# Altium footprint library Capacitors.PcbLib: 23 footprints (part 1 of 2)
Each footprint in its own frame and in the unit in brackets; x right, y up, seen from the top. Pads: shape width x height; smd on the part's side, far side on the other; paste and mask are expansions set on the pad; w line width, h text height; cw(c..) or ccw(c..) is an arc to the next point about the centre after c.
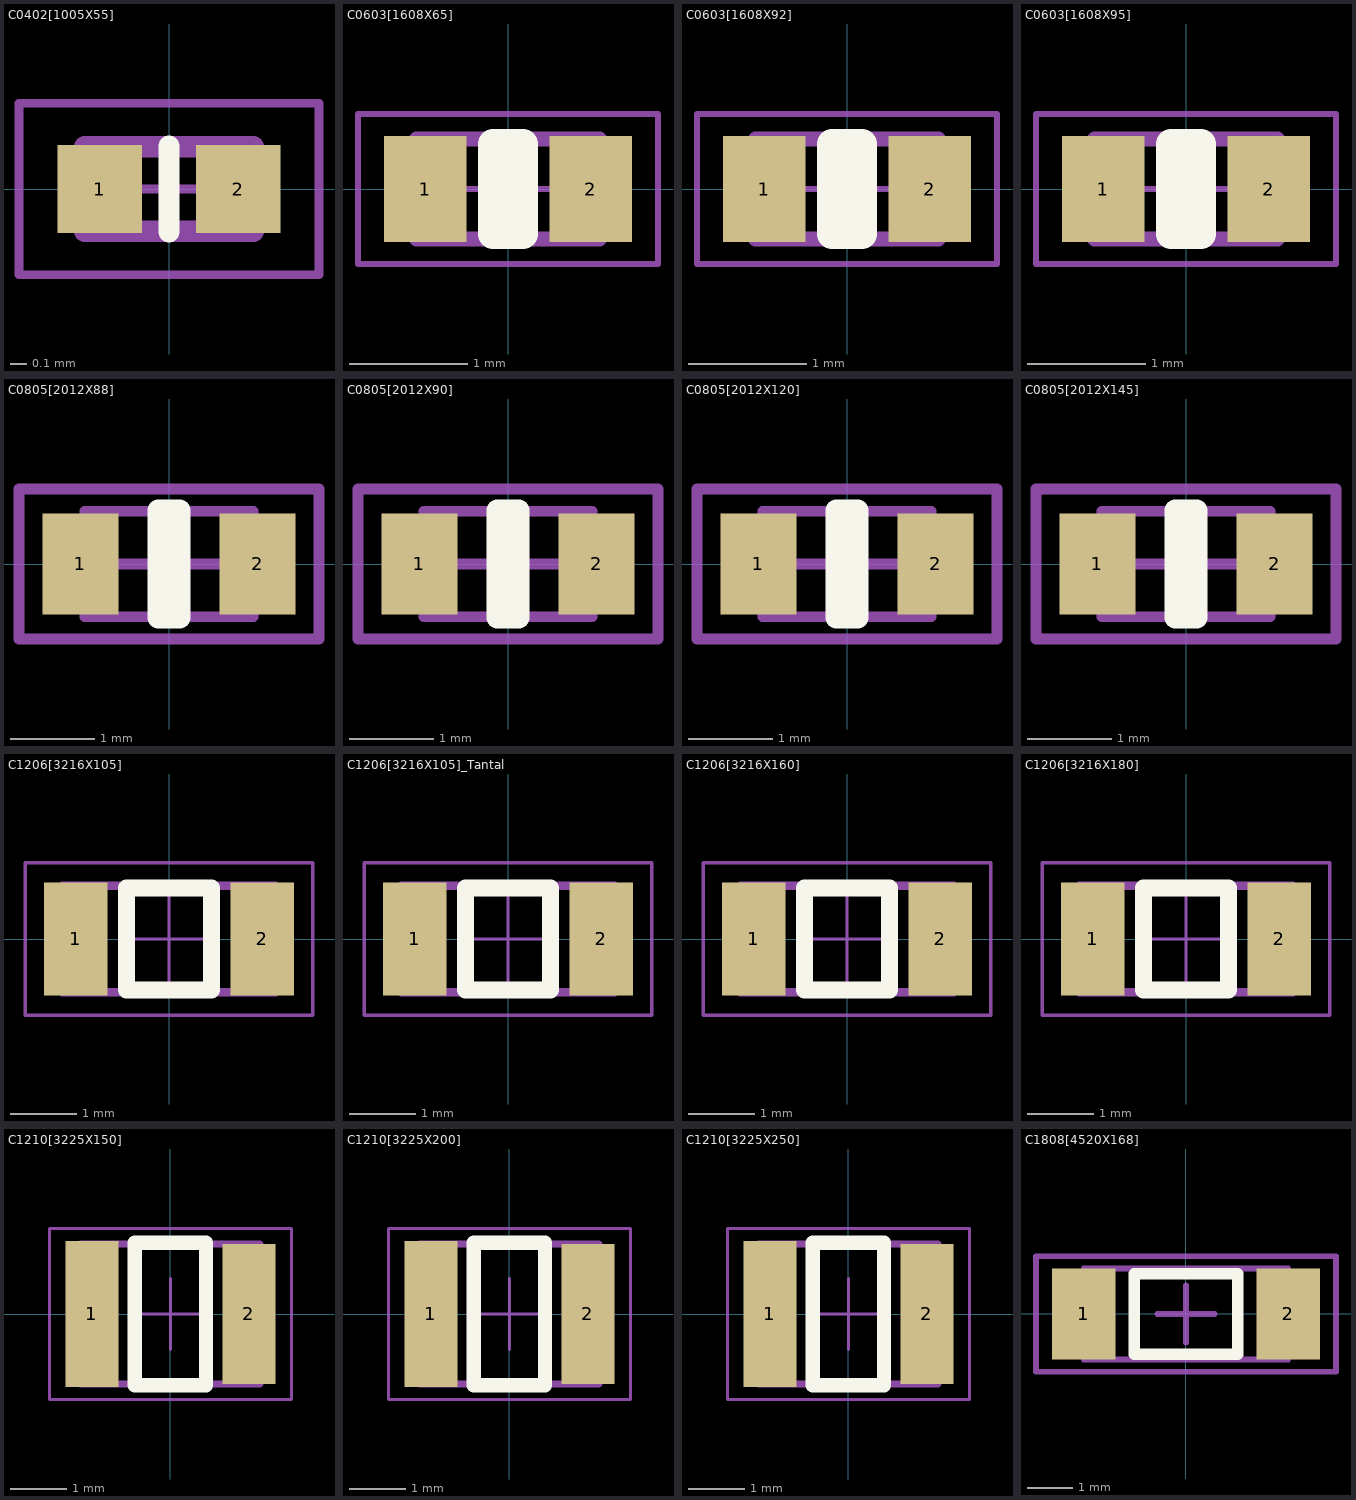
[diagram p0: the footprints below, top view; thin cyan lines are the x and y axes]

## C0402[1005X55] [mm] "Chip Capacitor, Body 1.0x0.5mm"
height 0.55
pads (2):
  rect 0.5x0.52 smd: 1(-0.41,0) 2(0.41,0)
Top Overlay:
  lines w0.127: 0,-0.254 0,0.254
Mechanical 2:
  lines w0.051: -0.254,0 0.254,0 ; 0,-0.254 0,0.254 ; -0.889,-0.508 0.889,-0.508 0.889,0.508 -0.889,0.508 -0.889,-0.508
Mechanical 3:
  lines w0.127: -0.5,-0.25 0.5,-0.25 0.5,0.25 -0.5,0.25 -0.5,-0.25
3D body "CAPC1005X55N EIA 0402.step": height 0.56, standoff 0.01, extent -0.5,-0.25 0.5,0.25

## C0603[1608X65] [mm] "Chip Capacitor, Body 1.6x0.8mm"
height 0.65
pads (2):
  rect 0.7x0.9 smd: 1(-0.7,0) 2(0.7,0)
Top Overlay:
  lines w0.254: -0.127,-0.381 0.127,-0.381 0.127,0.381 -0.127,0.381 -0.127,-0.381
Mechanical 2:
  lines w0.051: -0.381,0 0.381,0 ; 0,-0.381 0,0.381 ; -1.27,-0.635 1.27,-0.635 1.27,0.635 -1.27,0.635 -1.27,-0.635
Mechanical 3:
  lines w0.127: -0.775,-0.425 -0.775,0.425 0.775,0.425 0.775,-0.425 -0.775,-0.425
3D body "CAPC1508X65N EIA 0603.step": height 0.66, standoff 0.01, extent -0.75,-0.4 0.75,0.4

## C0603[1608X92] [mm] "Chip Capacitor, Body 1.6x0.8mm"
height 0.92
pads (2):
  rect 0.7x0.9 smd: 1(-0.7,0) 2(0.7,0)
Top Overlay:
  lines w0.254: -0.127,-0.381 0.127,-0.381 0.127,0.381 -0.127,0.381 -0.127,-0.381
Mechanical 2:
  lines w0.051: -0.381,0 0.381,0 ; 0,-0.381 0,0.381 ; -1.27,-0.635 1.27,-0.635 1.27,0.635 -1.27,0.635 -1.27,-0.635
Mechanical 3:
  lines w0.127: -0.775,-0.425 -0.775,0.425 0.775,0.425 0.775,-0.425 -0.775,-0.425
3D body "CAPC1608X92N EIA 0603.step": height 0.93, standoff 0.01, extent -0.8,-0.4 0.8,0.4

## C0603[1608X95] [mm] "Chip Capacitor, Body 1.6x0.8mm"
height 0.95
pads (2):
  rect 0.7x0.9 smd: 1(-0.7,0) 2(0.7,0)
Top Overlay:
  lines w0.254: -0.127,-0.381 -0.127,0.381 0.127,0.381 0.127,-0.381 -0.127,-0.381
Mechanical 2:
  lines w0.051: -0.381,0 0.381,0 ; 0,-0.381 0,0.381 ; -1.27,-0.635 -1.27,0.635 1.27,0.635 1.27,-0.635 -1.27,-0.635
Mechanical 3:
  lines w0.127: -0.775,-0.425 0.775,-0.425 0.775,0.425 -0.775,0.425 -0.775,-0.425
3D body "CAPC1608X95N EIA 0603.step": height 0.96, standoff 0.01, extent -0.8,-0.4 0.8,0.4

## C0805[2012X88] [mm] "Chip Capacitor, Body 2.0x1.25mm"
height 0.88
pads (2):
  rect 0.9x1.2 smd: 1(-1.05,0) 2(1.05,0)
Top Overlay:
  lines w0.254: -0.127,-0.635 0.127,-0.635 0.127,0.635 -0.127,0.635 -0.127,-0.635
Mechanical 2:
  lines w0.127: -0.635,0 0.635,0 ; 0,-0.635 0,0.635 ; -1.778,-0.889 1.778,-0.889 1.778,0.889 -1.778,0.889 -1.778,-0.889
Mechanical 3:
  lines w0.127: -1,-0.625 1,-0.625 1,0.625 -1,0.625 -1,-0.625
3D body "CAPC2012X88N EIA 0805.step": height 0.89, standoff 0.01, extent -1,-0.6 1,0.6

## C0805[2012X90] [mm] "Chip Capacitor, Body 2.0x1.25mm"
height 0.9
pads (2):
  rect 0.9x1.2 smd: 1(-1.05,0) 2(1.05,0)
Top Overlay:
  lines w0.254: -0.127,-0.635 -0.127,0.635 0.127,0.635 0.127,-0.635 -0.127,-0.635
Mechanical 2:
  lines w0.127: -0.635,0 0.635,0 ; 0,-0.635 0,0.635 ; -1.778,-0.889 -1.778,0.889 1.778,0.889 1.778,-0.889 -1.778,-0.889
Mechanical 3:
  lines w0.127: -1,-0.625 -1,0.625 1,0.625 1,-0.625 -1,-0.625
3D body "CAPC2012X90N EIA 0805.step": height 0.91, standoff 0.01, extent -1,-0.6 1,0.6

## C0805[2012X120] [mm] "Chip Capacitor, Body 2.0x1.25mm"
height 1.2
pads (2):
  rect 0.9x1.2 smd: 1(-1.05,0) 2(1.05,0)
Top Overlay:
  lines w0.254: -0.127,-0.635 -0.127,0.635 0.127,0.635 0.127,-0.635 -0.127,-0.635
Mechanical 2:
  lines w0.127: -0.635,0 0.635,0 ; 0,-0.635 0,0.635 ; -1.778,-0.889 -1.778,0.889 1.778,0.889 1.778,-0.889 -1.778,-0.889
Mechanical 3:
  lines w0.127: -1,-0.625 -1,0.625 1,0.625 1,-0.625 -1,-0.625
3D body "CAPC2012X120N EIA 0805.step": height 1.21, standoff 0.01, extent -1,-0.6 1,0.6

## C0805[2012X145] [mm] "Chip Capacitor, Body 2.0x1.25mm"
height 1.45
pads (2):
  rect 0.9x1.2 smd: 1(-1.05,0) 2(1.05,0)
Top Overlay:
  lines w0.254: -0.127,-0.635 -0.127,0.635 0.127,0.635 0.127,-0.635 -0.127,-0.635
Mechanical 2:
  lines w0.127: -0.635,0 0.635,0 ; 0,-0.635 0,0.635 ; -1.778,-0.889 -1.778,0.889 1.778,0.889 1.778,-0.889 -1.778,-0.889
Mechanical 3:
  lines w0.127: -1,-0.625 -1,0.625 1,0.625 1,-0.625 -1,-0.625
3D body "CAPC2012X145N EIA 0805.step": height 1.46, standoff 0.01, extent -1,-0.6 1,0.6

## C1206[3216X105] [mm] "Chip Capacitor, Body 3.2x1.6mm"
height 1.05
pads (2):
  rect 0.95x1.7 smd: 1(-1.4,0) 2(1.4,0)
Top Overlay:
  lines w0.254: -0.635,-0.762 0.635,-0.762 0.635,0.762 -0.635,0.762 -0.635,-0.762
Mechanical 2:
  lines w0.051: -0.635,0 0.635,0 ; 0,-0.635 0,0.635 ; -2.159,-1.143 2.159,-1.143 2.159,1.143 -2.159,1.143 -2.159,-1.143
Mechanical 3:
  lines w0.127: -1.6,-0.8 -1.6,0.8 1.6,0.8 1.6,-0.8 -1.6,-0.8
3D body "CAPC3216X105N EIA 1206.step": height 1.06, standoff 0.01, extent -1.6,-0.8 1.6,0.8

## C1206[3216X105]_Tantal [mm] "Tantal Capacitor, Body 3.2x1.6mm"
height 1.05
pads (2):
  rect 0.95x1.7 smd: 1(-1.4,0) 2(1.4,0)
Top Overlay:
  lines w0.254: -0.635,-0.762 0.635,-0.762 0.635,0.762 -0.635,0.762 -0.635,-0.762
Mechanical 2:
  lines w0.051: -0.635,0 0.635,0 ; 0,-0.635 0,0.635 ; -2.159,-1.143 2.159,-1.143 2.159,1.143 -2.159,1.143 -2.159,-1.143
Mechanical 3:
  lines w0.127: -1.6,-0.8 -1.6,0.8 1.6,0.8 1.6,-0.8 -1.6,-0.8
3D body "User Library-CaseA.step": height 1.8, standoff 0.14, extent -1.732,-0.8 1.732,0.8

## C1206[3216X160] [mm] "Chip Capacitor, Body 3.2x1.6mm"
height 1.8
pads (2):
  rect 0.95x1.7 smd: 1(-1.4,0) 2(1.4,0)
Top Overlay:
  lines w0.254: -0.635,-0.762 -0.635,0.762 0.635,0.762 0.635,-0.762 -0.635,-0.762
Mechanical 2:
  lines w0.051: -0.635,0 0.635,0 ; 0,-0.635 0,0.635 ; -2.159,-1.143 -2.159,1.143 2.159,1.143 2.159,-1.143 -2.159,-1.143
Mechanical 3:
  lines w0.127: -1.6,-0.8 1.6,-0.8 1.6,0.8 -1.6,0.8 -1.6,-0.8
3D body "CAPC3215X168N EIA 1206.step": height 1.67, standoff -0.01, extent -1.6,-0.75 1.6,0.75

## C1206[3216X180] [mm] "Chip Capacitor, Body 3.2x1.6mm"
height 1.8
pads (2):
  rect 0.95x1.7 smd: 1(-1.4,0) 2(1.4,0)
Top Overlay:
  lines w0.254: -0.635,-0.762 -0.635,0.762 0.635,0.762 0.635,-0.762 -0.635,-0.762
Mechanical 2:
  lines w0.051: -0.635,0 0.635,0 ; 0,-0.635 0,0.635 ; -2.159,-1.143 -2.159,1.143 2.159,1.143 2.159,-1.143 -2.159,-1.143
Mechanical 3:
  lines w0.127: -1.6,-0.8 1.6,-0.8 1.6,0.8 -1.6,0.8 -1.6,-0.8
3D body "CAPC3216X180N EIA 1206.step": height 1.81, standoff 0.01, extent -1.6,-0.8 1.6,0.8

## C1210[3225X150] [mm] "Chip Capacitor, Body 3.2x2.5mm"
height 1.5
pads (2):
  rect 0.95x2.6 smd: 1(-1.4,0)
  rect 0.95x2.5 smd: 2(1.4,0)
Top Overlay:
  lines w0.254: -0.635,-1.27 0.635,-1.27 0.635,1.27 -0.635,1.27 -0.635,-1.27
Mechanical 2:
  lines w0.051: -0.635,0 0.635,0 ; 0,-0.635 0,0.635 ; -2.159,-1.524 -2.159,1.524 2.159,1.524 2.159,-1.524 -2.159,-1.524
Mechanical 3:
  lines w0.127: -1.6,-1.25 -1.6,1.25 1.6,1.25 1.6,-1.25 -1.6,-1.25
3D body "CAPC3225X150N CDR33.step": height 1.51, standoff 0.01, extent -1.6,-1.25 1.6,1.25

## C1210[3225X200] [mm] "Chip Capacitor, Body 3.2x2.5mm"
height 1.5
pads (2):
  rect 0.95x2.6 smd: 1(-1.4,0)
  rect 0.95x2.5 smd: 2(1.4,0)
Top Overlay:
  lines w0.254: -0.635,-1.27 -0.635,1.27 0.635,1.27 0.635,-1.27 -0.635,-1.27
Mechanical 2:
  lines w0.051: -0.635,0 0.635,0 ; 0,-0.635 0,0.635 ; -2.159,-1.524 2.159,-1.524 2.159,1.524 -2.159,1.524 -2.159,-1.524
Mechanical 3:
  lines w0.127: -1.6,-1.25 1.6,-1.25 1.6,1.25 -1.6,1.25 -1.6,-1.25
3D body "CAPC3225X200N EIA 1210.step": height 1.99, standoff -0.01, extent -1.6,-1.25 1.6,1.25

## C1210[3225X250] [mm] "Chip Capacitor, Body 3.2x2.5mm"
height 1.5
pads (2):
  rect 0.95x2.6 smd: 1(-1.4,0)
  rect 0.95x2.5 smd: 2(1.4,0)
Top Overlay:
  lines w0.254: -0.635,-1.27 -0.635,1.27 0.635,1.27 0.635,-1.27 -0.635,-1.27
Mechanical 2:
  lines w0.051: -0.635,0 0.635,0 ; 0,-0.635 0,0.635 ; -2.159,-1.524 2.159,-1.524 2.159,1.524 -2.159,1.524 -2.159,-1.524
Mechanical 3:
  lines w0.127: -1.6,-1.25 1.6,-1.25 1.6,1.25 -1.6,1.25 -1.6,-1.25
3D body "CAPC3225X245N EIA 1210.step": height 2.44, standoff -0.01, extent -1.6,-1.25 1.6,1.25

## C1808[4520X168] [mm] "Chip Capacitor, Body 4.5x2.0mm"
height 1.68
pads (2):
  rect 1.4x2 smd: 1(-2.25,0) 2(2.25,0)
Top Overlay:
  lines w0.254: -1.143,-0.889 1.143,-0.889 1.143,0.889 -1.143,0.889 -1.143,-0.889
Mechanical 2:
  lines w0.127: -0.635,0 0.635,0 ; 0,-0.635 0,0.635 ; -3.302,-1.27 -3.302,1.27 3.302,1.27 3.302,-1.27 -3.302,-1.27
Mechanical 3:
  lines w0.127: -2.25,-1 -2.25,1 2.25,1 2.25,-1 -2.25,-1
3D body "CAPC4520X168N EIA 1808.step": height 1.69, standoff 0.01, extent -2.25,-1 2.25,1